# EAGLE library part GS2970 (library gennum)
3Gb/s, HD, SD SDI Receiver Complete with SMPTE Audio and Video Processing Source: http://www.gennum.com/video/pdf/47478DOC.pdf
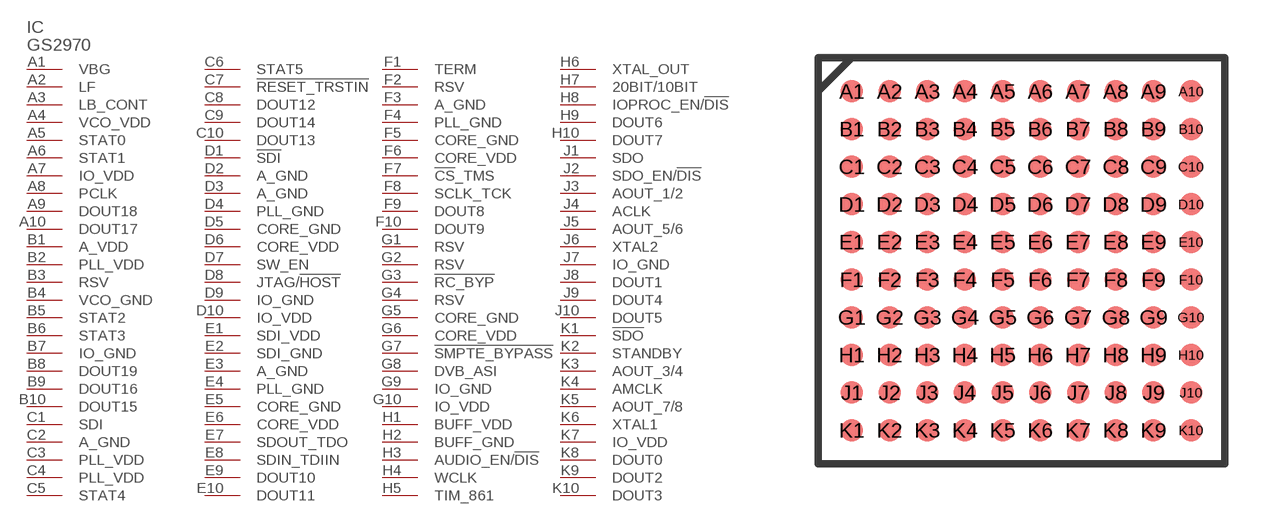
[diagram p4: symbol with the pads of LBGA100; footprint LBGA100]

Designator prefix IC

## GS2970 (MPN: GS2970IBE3; OC_FARNELL: 1694478; OC_NEWARK: 56P5062)  [LBGA100]
A1  VBG  in
A2  LF  in
A3  LB_CONT  in
A4  VCO_VDD  pwr
A5  STAT0  out
A6  STAT1  out
A7  IO_VDD  pwr
A8  PCLK  out
A9  DOUT18  out
A10  DOUT17  out
B1  A_VDD  pwr
B2  PLL_VDD  pwr
B3  RSV  nc
B4  VCO_GND  pwr
B5  STAT2  out
B6  STAT3  out
B7  IO_GND  pwr
B8  DOUT19  out
B9  DOUT16  out
B10  DOUT15  out
C1  SDI  in
C2  A_GND  pwr
C3  PLL_VDD  pwr
C4  PLL_VDD  pwr
C5  STAT4  out
C6  STAT5  out
C7  !RESET_TRSTIN  out
C8  DOUT12  out
C9  DOUT14  out
C10  DOUT13  out
D1  !SDI  in
D2  A_GND  pwr
D3  A_GND  pwr
D4  PLL_GND  pwr
D5  CORE_GND  pwr
D6  CORE_VDD  pwr
D7  SW_EN  in
D8  JTAG/!HOST  in
D9  IO_GND  pwr
D10  IO_VDD  pwr
E1  SDI_VDD  pwr
E2  SDI_GND  pwr
E3  A_GND  pwr
E4  PLL_GND  pwr
E5  CORE_GND  pwr
E6  CORE_VDD  pwr
E7  SDOUT_TDO  out
E8  SDIN_TDIIN  out
E9  DOUT10  out
E10  DOUT11  out
F1  TERM  in
F2  RSV  nc
F3  A_GND  pwr
F4  PLL_GND  pwr
F5  CORE_GND  pwr
F6  CORE_VDD  pwr
F7  !CS!_TMS  in
F8  SCLK_TCK  in
F9  DOUT8  out
F10  DOUT9  out
G1  RSV  nc
G2  RSV  nc
G3  !RC_BYP  in
G4  RSV  nc
G5  CORE_GND  pwr
G6  CORE_VDD  pwr
G7  !SMPTE_BYPASS
G8  DVB_ASI
G9  IO_GND  pwr
G10  IO_VDD  pwr
H1  BUFF_VDD  pwr
H2  BUFF_GND  pwr
H3  AUDIO_EN/!DIS  in
H4  WCLK  out
H5  TIM_861  in
H6  XTAL_OUT  out
H7  20BIT/10BIT  in
H8  IOPROC_EN/!DIS  in
H9  DOUT6  out
H10  DOUT7  out
J1  SDO  out
J2  SDO_EN/!DIS  in
J3  AOUT_1/2  out
J4  ACLK  out
J5  AOUT_5/6  out
J6  XTAL2  in
J7  IO_GND  pwr
J8  DOUT1  out
J9  DOUT4  out
J10  DOUT5  out
K1  !SDO  out
K2  STANDBY  in
K3  AOUT_3/4  out
K4  AMCLK  out
K5  AOUT_7/8  out
K6  XTAL1  in
K7  IO_VDD  pwr
K8  DOUT0  out
K9  DOUT2  out
K10  DOUT3  out

## Footprint LBGA100 (pad centres in mm)
LBGA 11mm x 11mm 100-Ball Source: http://www.gennum.com/video/pdf/47478DOC.pdf
smd 0.6 x 0.6: A1 -4.5,4.5; A2 -3.5,4.5; A3 -2.5,4.5; A4 -1.5,4.5; A5 -0.5,4.5; A6 0.5,4.5; A7 1.5,4.5; A8 2.5,4.5; A9 3.5,4.5; A10 4.5,4.5; B1 -4.5,3.5; B2 -3.5,3.5; B3 -2.5,3.5; B4 -1.5,3.5; B5 -0.5,3.5; B6 0.5,3.5; B7 1.5,3.5; B8 2.5,3.5; B9 3.5,3.5; B10 4.5,3.5; C1 -4.5,2.5; C2 -3.5,2.5; C3 -2.5,2.5; C4 -1.5,2.5; C5 -0.5,2.5; C6 0.5,2.5; C7 1.5,2.5; C8 2.5,2.5; C9 3.5,2.5; C10 4.5,2.5; D1 -4.5,1.5; D2 -3.5,1.5; D3 -2.5,1.5; D4 -1.5,1.5; D5 -0.5,1.5; D6 0.5,1.5; D7 1.5,1.5; D8 2.5,1.5; D9 3.5,1.5; D10 4.5,1.5; E1 -4.5,0.5; E2 -3.5,0.5; E3 -2.5,0.5; E4 -1.5,0.5; E5 -0.5,0.5; E6 0.5,0.5; E7 1.5,0.5; E8 2.5,0.5; E9 3.5,0.5; E10 4.5,0.5; F1 -4.5,-0.5; F2 -3.5,-0.5; F3 -2.5,-0.5; F4 -1.5,-0.5; F5 -0.5,-0.5; F6 0.5,-0.5; F7 1.5,-0.5; F8 2.5,-0.5; F9 3.5,-0.5; F10 4.5,-0.5; G1 -4.5,-1.5; G2 -3.5,-1.5; G3 -2.5,-1.5; G4 -1.5,-1.5; G5 -0.5,-1.5; G6 0.5,-1.5; G7 1.5,-1.5; G8 2.5,-1.5; G9 3.5,-1.5; G10 4.5,-1.5; H1 -4.5,-2.5; H2 -3.5,-2.5; H3 -2.5,-2.5; H4 -1.5,-2.5; H5 -0.5,-2.5; H6 0.5,-2.5; H7 1.5,-2.5; H8 2.5,-2.5; H9 3.5,-2.5; H10 4.5,-2.5; J1 -4.5,-3.5; J2 -3.5,-3.5; J3 -2.5,-3.5; J4 -1.5,-3.5; J5 -0.5,-3.5; J6 0.5,-3.5; J7 1.5,-3.5; J8 2.5,-3.5; J9 3.5,-3.5; J10 4.5,-3.5; K1 -4.5,-4.5; K2 -3.5,-4.5; K3 -2.5,-4.5; K4 -1.5,-4.5; K5 -0.5,-4.5; K6 0.5,-4.5; K7 1.5,-4.5; K8 2.5,-4.5; K9 3.5,-4.5; K10 4.5,-4.5